# EAGLE library part FXMA2102 (library TheMaker_v5)
FXMA2102 Dual Supply 2-Bit Voltage Translator/Buffer/Repeater Isolator for I2C FAIRCHILD SEMICONDUCTOR
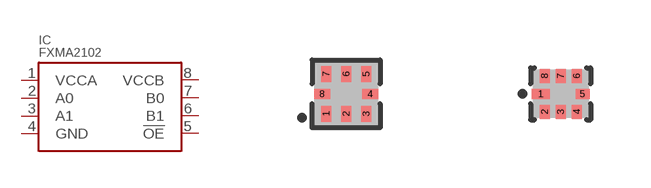
[diagram p5: symbol with the pads of MICROPAK8(1.6MM); footprints MICROPAK8(1.6MM), UMLP8]

Designator prefix IC

## FXMA2102L8X  [MICROPAK8(1.6MM)]
1  VCCA
2  A0
3  A1
4  GND
5  !OE
6  B1
7  B0
8  VCCB

## FXMA2102UMX  [UMLP8]
Pads as for MICROPAK8(1.6MM)

## Footprint MICROPAK8(1.6MM) (pad centres in mm)
smd 0.25 x 0.4: 1 -0.5,-0.5; 2 0,-0.5; 3 0.5,-0.5; 5 0.5,0.5; 6 0,0.5; 7 -0.5,0.5
smd 0.4 x 0.25: 4 0.6,0; 8 -0.6,0

## Footprint UMLP8 (pad centres in mm)
smd 0.45 x 0.25: 1 -0.5,0
smd 0.25 x 0.35: 2 -0.4,-0.45; 3 0,-0.45; 4 0.4,-0.45; 6 0.4,0.45; 7 0,0.45; 8 -0.4,0.45
smd 0.35 x 0.25: 5 0.55,0